# Altium integrated library TDC1000PW.IntLib: 1 symbol
Pins are listed as number, name and electrical type; pins without a type are passive.

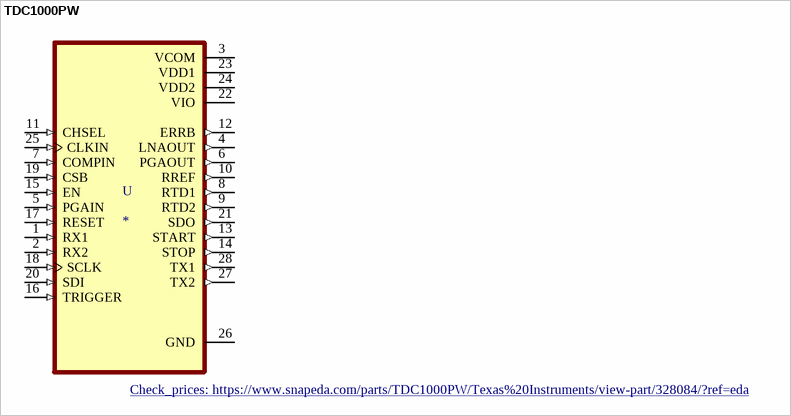
[diagram p0: symbol TDC1000PW]

## TDC1000PW
designator U
Ultrasonic sensing analog front end for level andconcentration sensing 28-TSSOP -40 to 125; MF: Texas Instruments; MP: TDC1000PW; Price: None; Value: *; Texas_Instruments-Purchase-URL: https://snapeda.com/shop?store=Texas+Instruments&id=328084; Mouser-Purchase-URL: https://snapeda.com/shop?store=Mouser&id=328084; Package: TSSOP-28 Texas Instruments; SnapEDA_Link: https://www.snapeda.com/parts/TDC1000PW/Texas%20Instruments/view-part/328084/?ref=snap; Availability: Warning; DigiKey-Purchase-URL: https://snapeda.com/shop?store=DigiKey&id=328084; Check_prices: https://www.snapeda.com/parts/TDC1000PW/Texas%20Instruments/view-part/328084/?ref=eda
footprint SOP65P640X120-28N
pins: 1 RX1 (in), 2 RX2 (in), 3 VCOM (power), 4 LNAOUT (out), 5 PGAIN (in), 6 PGAOUT (out), 7 COMPIN (in), 8 RTD1 (out), 9 RTD2 (out), 10 RREF (out), 11 CHSEL (in), 12 ERRB (out), 13 START (out), 14 STOP (out), 15 EN (in), 16 TRIGGER (in), 17 RESET (in), 18 SCLK (in), 19 CSB (in), 20 SDI (in), 21 SDO (out), 22 VIO (power), 23 VDD1 (power), 24 VDD2 (power), 25 CLKIN (in), 26 GND (power), 27 TX2 (out), 28 TX1 (out)